# Altium footprint library IC_Interface.PcbLib: 6 footprints
Each footprint in its own frame and in the unit in brackets; x right, y up, seen from the top. Pads: shape width x height; smd on the part's side, far side on the other; paste and mask are expansions set on the pad; w line width, h text height; cw(c..) or ccw(c..) is an arc to the next point about the centre after c.
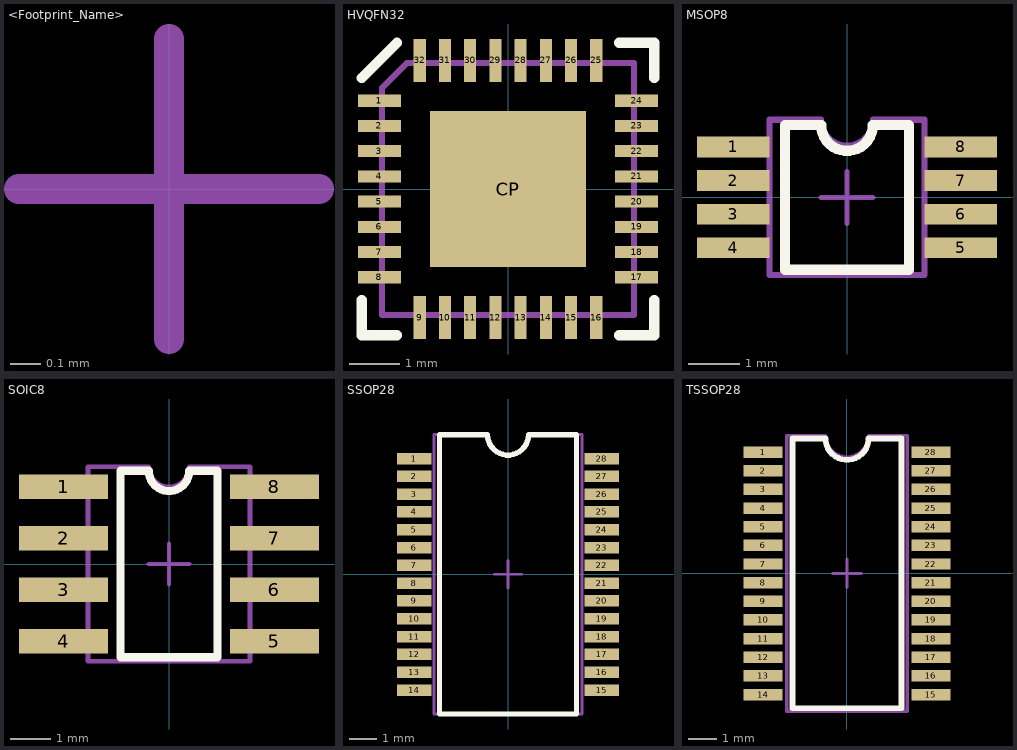
[diagram p0: the footprints below, top view; thin cyan lines are the x and y axes]

## <Footprint_Name> [mm] "<Package_Name>, <Number_of_pins>, <Pitch_in_mm>"
height 2.5
ReperDotTop:
  lines w0.1: -0.5,0 0.5,0 ; 0,-0.5 0,0.5
AssemblyOutlineTop:
  text "'.Designator'" at 0,0 h2.5

## HVQFN32 [mm] "SOT617-1, 32 pin, Pitch 0.5mm"
height 2.5
pads (33):
  rect 0.85x0.24 smd paste+0.025 mask+0.1: 1(-2.55,1.75) 2(-2.55,1.25) 3(-2.55,0.75) 4(-2.55,0.25) 5(-2.55,-0.25) 6(-2.55,-0.75) 7(-2.55,-1.25) 8(-2.55,-1.75) 17(2.55,-1.75) 18(2.55,-1.25) 19(2.55,-0.75) 20(2.55,-0.25) 21(2.55,0.25) 22(2.55,0.75) 23(2.55,1.25) 24(2.55,1.75)
  rect 0.24x0.85 smd paste+0.025 mask+0.1: 9(-1.75,-2.55) 10(-1.25,-2.55) 11(-0.75,-2.55) 12(-0.25,-2.55) 13(0.25,-2.55) 14(0.75,-2.55) 15(1.25,-2.55) 16(1.75,-2.55) 25(1.75,2.55) 26(1.25,2.55) 27(0.75,2.55) 28(0.25,2.55) 29(-0.25,2.55) 30(-0.75,2.55) 31(-1.25,2.55) 32(-1.75,2.55)
  rect 3.1x3.1 smd paste-1.55 mask+0.1: CP(0,0)
Top Overlay:
  lines w0.2: -2.9,-2.2 -2.9,-2.9 -2.2,-2.9 ; -2.9,2.2 -2.2,2.9 ; 2.2,-2.9 2.9,-2.9 2.9,-2.2 ; 2.2,2.9 2.9,2.9 2.9,2.2
Top Paste:
  region: 0.2,0.9 0.2,0.2 0.9,0.2 0.9,0.9
  region: 0.2,-0.2 0.2,-0.9 0.9,-0.9 0.9,-0.2
  region: -0.9,-0.2 -0.9,-0.9 -0.2,-0.9 -0.2,-0.2
  region: -0.9,0.9 -0.9,0.2 -0.2,0.2 -0.2,0.9
ReperDotTop:
  lines w0.1: -0.5,0 0.5,0 ; 0,-0.5 0,0.5
AssemblyOutlineTop:
  lines w0.12: -2.5,-2.5 -2.5,2 -2,2.5 2.5,2.5 2.5,-2.5 -2.5,-2.5
  text "'.Designator'" at 0,0 h2.5
3D body "User Library-HVQFN-32-1.step": height 0.84, standoff -0.01, extent -2.5,-2.5 2.5,2.5

## MSOP8 [mm] "MO-187-AA Package, 8 pins, Pitch 0.65mm"
height 2.5
pads (8):
  rect 1.4x0.4 smd mask+0.1: 1(-2.2,0.975) 2(-2.2,0.325) 3(-2.2,-0.325) 4(-2.2,-0.975) 5(2.2,-0.975) 6(2.2,-0.325) 7(2.2,0.325) 8(2.2,0.975)
Top Overlay:
  lines w0.2: -1.2,-1.4 1.2,-1.4 1.2,1.4 0.5,1.4 cw(c0,1.4) -0.5,1.4 -1.2,1.4 -1.2,-1.4
ReperDotTop:
  lines w0.1: -0.5,0 0.5,0 ; 0,-0.5 0,0.5
AssemblyOutlineTop:
  lines w0.12: -1.5,-1.5 1.5,-1.5 1.5,1.5 0.5,1.5 cw(c0,1.5) -0.5,1.5 -1.5,1.5 -1.5,-1.5
  text "'.Designator'" at 0,0 h2.5
3D body "User Library-MSOP8.step": height 1.1, standoff 0, extent -2.469,-1.55 2.469,1.55

## SOIC8 [mm] "MS-012-AA Package, 8 pins, Pitch 1.27mm (.050)"
height 2.5
pads (8):
  rect 2.2x0.6 smd mask+0.1: 1(-2.6,1.905) 2(-2.6,0.635) 3(-2.6,-0.635) 4(-2.6,-1.905) 5(2.6,-1.905) 6(2.6,-0.635) 7(2.6,0.635) 8(2.6,1.905)
Top Overlay:
  lines w0.2: -1.2,-2.3 1.2,-2.3 1.2,2.3 0.5,2.3 cw(c0,2.3) -0.5,2.3 -1.2,2.3 -1.2,-2.3
ReperDotTop:
  lines w0.1: -0.5,0 0.5,0 ; 0,-0.5 0,0.5
AssemblyOutlineTop:
  lines w0.12: -2,-2.4 2,-2.4 2,2.4 0.5,2.4 cw(c0,2.4) -0.5,2.4 -2,2.4 -2,-2.4
  text "'.Designator'" at 0,0 h2.5
3D body "User Library-SOIC-8-1.step": height 1.75, standoff 0, extent -3,-2.45 3,2.45

## SSOP28 [mm] "SSOP-28, Body 5.3mm (.209), 28 Lead, Pitch 0.65mm"
height 2.5
pads (28):
  rect 1.25x0.42 smd: 1(-3.425,4.225) 2(-3.425,3.575) 3(-3.425,2.925) 4(-3.425,2.275) 5(-3.425,1.625) 6(-3.425,0.975) 7(-3.425,0.325) 8(-3.425,-0.325) 9(-3.425,-0.975) 10(-3.425,-1.625) 11(-3.425,-2.275) 12(-3.425,-2.925) 13(-3.425,-3.575) 14(-3.425,-4.225) 15(3.425,-4.225) 16(3.425,-3.575) 17(3.425,-2.925) 18(3.425,-2.275) 19(3.425,-1.625) 20(3.425,-0.975) 21(3.425,-0.325) 22(3.425,0.325) 23(3.425,0.975) 24(3.425,1.625) 25(3.425,2.275) 26(3.425,2.925) 27(3.425,3.575) 28(3.425,4.225)
Top Overlay:
  lines w0.2: -2.5,-5.1 2.5,-5.1 2.5,5.1 0.75,5.1 cw(c0,5.1) -0.75,5.1 -2.5,5.1 -2.5,-5.1
ReperDotTop:
  lines w0.1: -0.5,0 0.5,0 ; 0,-0.5 0,0.5
AssemblyOutlineTop:
  lines w0.12: -2.7,-5.1 2.7,-5.1 2.7,5.1 0.75,5.1 cw(c0,5.1) -0.75,5.1 -2.7,5.1 -2.7,-5.1
  text "'.Designator'" at 0,0 h2.5
3D body "User Library-SSOP-28-FT232RL.step": height 2.16, standoff 0, extent -3.878,-5.165 3.878,5.165

## TSSOP28 [mm] "SOT361-1 Package, 28 pins, Pitch 0.65mm"
height 2.5
pads (28):
  rect 1.35x0.4 smd mask+0.1: 1(-2.925,4.225) 2(-2.925,3.575) 3(-2.925,2.925) 4(-2.925,2.275) 5(-2.925,1.625) 6(-2.925,0.975) 7(-2.925,0.325) 8(-2.925,-0.325) 9(-2.925,-0.975) 10(-2.925,-1.625) 11(-2.925,-2.275) 12(-2.925,-2.925) 13(-2.925,-3.575) 14(-2.925,-4.225) 15(2.925,-4.225) 16(2.925,-3.575) 17(2.925,-2.925) 18(2.925,-2.275) 19(2.925,-1.625) 20(2.925,-0.975) 21(2.925,-0.325) 22(2.925,0.325) 23(2.925,0.975) 24(2.925,1.625) 25(2.925,2.275) 26(2.925,2.925) 27(2.925,3.575) 28(2.925,4.225)
Top Overlay:
  lines w0.2: -1.9,-4.7 1.9,-4.7 1.9,4.7 0.75,4.7 cw(c0,4.7) -0.75,4.7 -1.9,4.7 -1.9,-4.7
ReperDotTop:
  lines w0.1: -0.5,0 0.5,0 ; 0,-0.5 0,0.5
AssemblyOutlineTop:
  lines w0.12: -2.1,-4.8 -2.1,4.8 -0.75,4.8 ccw(c0,4.8) 0.75,4.8 2.1,4.8 2.1,-4.8 -2.1,-4.8
  text "'.Designator'" at 0,0 h2.5
3D body "SW3dPS-TSSOP-28_P065.STEP": height 1, standoff 0.01, extent -3.2,-4.85 3.2,4.85